# EAGLE library part AT45DB642D-CN (library memory-atmel)
FLASH MEMORY 64-megabit, 2.7-volt, DataFlash®
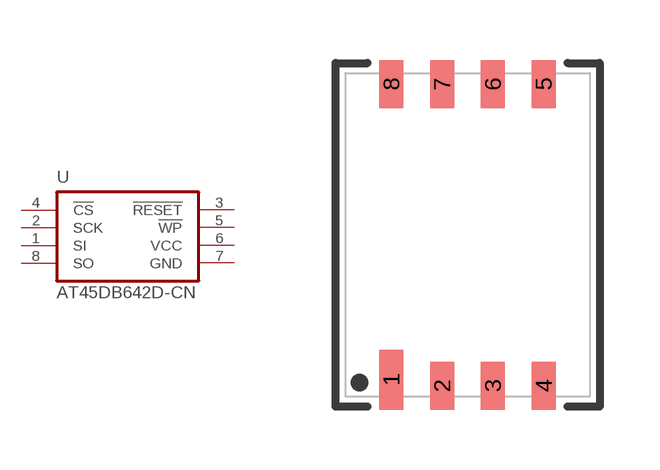
[diagram p11: symbol with the pads of CASON-8CN3; footprint CASON-8CN3]

Designator prefix U

## AT45DB642D-CN  [CASON-8CN3]
1  SI  in
2  SCK  in
3  !RESET!  in
4  !CS!  in
5  !WP!  in
6  VCC  pwr
7  GND  pwr
8  SO  out

## Footprint CASON-8CN3 (pad centres in mm)
8CN3-CASON body 6 x 8 x 1.0 mm, Lead Pitch 1.27 mm
smd 0.6 x 1.5: 1 -1.905,-3.625
smd 0.6 x 1.2: 2 -0.635,-3.775; 3 0.635,-3.775; 4 1.905,-3.775; 5 1.905,3.775; 6 0.635,3.775; 7 -0.635,3.775; 8 -1.905,3.775